# Altium footprint library QFP40P1600X1600X160-129N.PcbLib: 1 footprints
Each footprint in its own frame and in the unit in brackets; x right, y up, seen from the top. Pads: shape width x height; smd on the part's side, far side on the other; paste and mask are expansions set on the pad; w line width, h text height; cw(c..) or ccw(c..) is an arc to the next point about the centre after c.
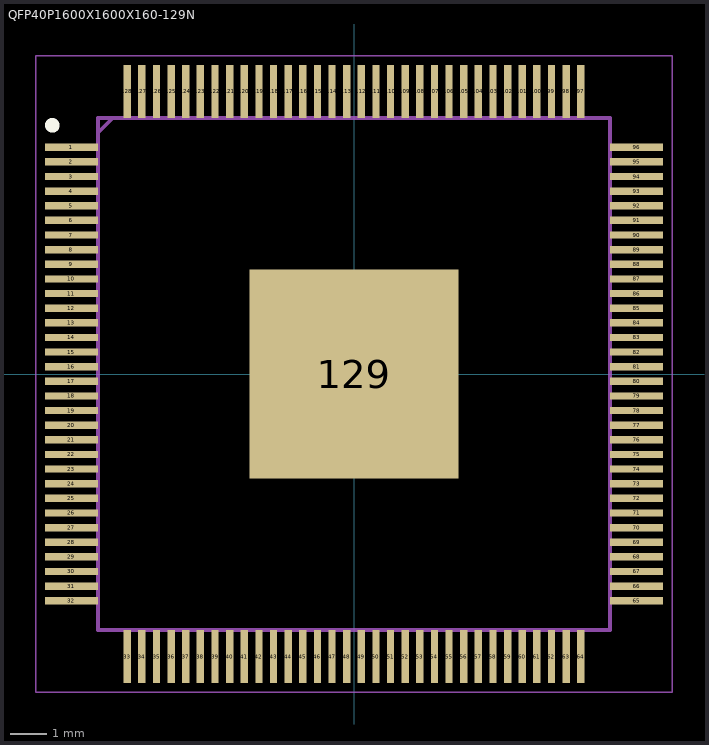
[diagram p0: the footprint, top view; thin cyan lines are the x and y axes]

## QFP40P1600X1600X160-129N [mm]
pads (129):
  rect 1.45x0.2 smd: 1(-7.725,6.2) 2(-7.725,5.8) 3(-7.725,5.4) 4(-7.725,5) 5(-7.725,4.6) 6(-7.725,4.2) 7(-7.725,3.8) 8(-7.725,3.4) 9(-7.725,3) 10(-7.725,2.6) 11(-7.725,2.2) 12(-7.725,1.8) 13(-7.725,1.4) 14(-7.725,1) 15(-7.725,0.6) 16(-7.725,0.2) 17(-7.725,-0.2) 18(-7.725,-0.6) 19(-7.725,-1) 20(-7.725,-1.4) 21(-7.725,-1.8) 22(-7.725,-2.2) 23(-7.725,-2.6) 24(-7.725,-3) 25(-7.725,-3.4) 26(-7.725,-3.8) 27(-7.725,-4.2) 28(-7.725,-4.6) 29(-7.725,-5) 30(-7.725,-5.4) 31(-7.725,-5.8) 32(-7.725,-6.2) 65(7.725,-6.2) 66(7.725,-5.8) 67(7.725,-5.4) 68(7.725,-5) 69(7.725,-4.6) 70(7.725,-4.2) 71(7.725,-3.8) 72(7.725,-3.4) 73(7.725,-3) 74(7.725,-2.6) 75(7.725,-2.2) 76(7.725,-1.8) 77(7.725,-1.4) 78(7.725,-1) 79(7.725,-0.6) 80(7.725,-0.2) 81(7.725,0.2) 82(7.725,0.6) 83(7.725,1) 84(7.725,1.4) 85(7.725,1.8) 86(7.725,2.2) 87(7.725,2.6) 88(7.725,3) 89(7.725,3.4) 90(7.725,3.8) 91(7.725,4.2) 92(7.725,4.6) 93(7.725,5) 94(7.725,5.4) 95(7.725,5.8) 96(7.725,6.2)
  rect 0.2x1.45 smd: 33(-6.2,-7.725) 34(-5.8,-7.725) 35(-5.4,-7.725) 36(-5,-7.725) 37(-4.6,-7.725) 38(-4.2,-7.725) 39(-3.8,-7.725) 40(-3.4,-7.725) 41(-3,-7.725) 42(-2.6,-7.725) 43(-2.2,-7.725) 44(-1.8,-7.725) 45(-1.4,-7.725) 46(-1,-7.725) 47(-0.6,-7.725) 48(-0.2,-7.725) 49(0.2,-7.725) 50(0.6,-7.725) 51(1,-7.725) 52(1.4,-7.725) 53(1.8,-7.725) 54(2.2,-7.725) 55(2.6,-7.725) 56(3,-7.725) 57(3.4,-7.725) 58(3.8,-7.725) 59(4.2,-7.725) 60(4.6,-7.725) 61(5,-7.725) 62(5.4,-7.725) 63(5.8,-7.725) 64(6.2,-7.725) 97(6.2,7.725) 98(5.8,7.725) 99(5.4,7.725) 100(5,7.725) 101(4.6,7.725) 102(4.2,7.725) 103(3.8,7.725) 104(3.4,7.725) 105(3,7.725) 106(2.6,7.725) 107(2.2,7.725) 108(1.8,7.725) 109(1.4,7.725) 110(1,7.725) 111(0.6,7.725) 112(0.2,7.725) 113(-0.2,7.725) 114(-0.6,7.725) 115(-1,7.725) 116(-1.4,7.725) 117(-1.8,7.725) 118(-2.2,7.725) 119(-2.6,7.725) 120(-3,7.725) 121(-3.4,7.725) 122(-3.8,7.725) 123(-4.2,7.725) 124(-4.6,7.725) 125(-5,7.725) 126(-5.4,7.725) 127(-5.8,7.725) 128(-6.2,7.725)
  rect 5.72x5.72 smd: 129(0,0)
Top Overlay:
  circle w0.2: c-8.25,6.8 r0.1
Mechanical 15:
  lines w0.1: -7,6.6 -6.6,7 ; -7,-7 7,-7 7,7 -7,7 -7,-7
Mechanical 20:
  lines w0.05: -8.7,-8.7 8.7,-8.7 8.7,8.7 -8.7,8.7 -8.7,-8.7